# EAGLE library part NOKIA_LCD5110_LOGIC_LEVEL (library MTS-OTR_Custom)
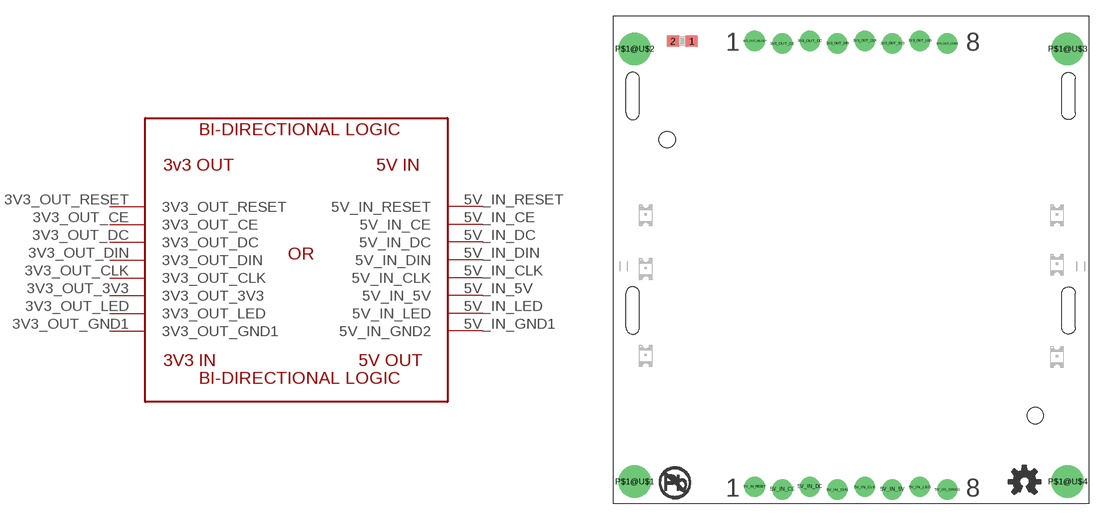
[diagram p40: symbol with the pads of NOKIA_LCD5110_LOGIC_LEVEL; footprint NOKIA_LCD5110_LOGIC_LEVEL]

Designator prefix -

## NOKIA_LCD5110_LOGIC_LEVEL  [NOKIA_LCD5110_LOGIC_LEVEL]
3V3_OUT_3V3  3V3_OUT_3V3
3V3_OUT_CE  3V3_OUT_CE
3V3_OUT_CLK  3V3_OUT_CLK
3V3_OUT_DC  3V3_OUT_DC
3V3_OUT_DIN  3V3_OUT_DIN
3V3_OUT_GND1  3V3_OUT_GND1
3V3_OUT_LED  3V3_OUT_LED
3V3_OUT_RESET  3V3_OUT_RESET
5V_IN_5V  5V_IN_5V
5V_IN_CE  5V_IN_CE
5V_IN_CLK  5V_IN_CLK
5V_IN_DC  5V_IN_DC
5V_IN_DIN  5V_IN_DIN
5V_IN_GND1  5V_IN_GND2
5V_IN_LED  5V_IN_LED
5V_IN_RESET  5V_IN_RESET

## Footprint NOKIA_LCD5110_LOGIC_LEVEL (pad centres in mm)
Package generated by make-group2pac.ulp from: F:/INSTALLATIONS/Eagle 7.6.0/projects/NOKIA LCD BARE PCB/NOKIA 5110 BARE PCB - ELECROW SENT - WORKS-COPY_LEVEL_SHIFTER.brd at: 19/07/2017 23:56
smd 1.1 x 1: 1 7.25,42.7; 2 5.55,42.7
drill 1.016 pad 1.88: 3V3_OUT_3V3 25.8,42.473; 3V3_OUT_CE 15.64,42.473; 3V3_OUT_CLK 23.26,42.727; 3V3_OUT_DC 18.18,42.727; 3V3_OUT_DIN 20.72,42.473; 3V3_OUT_GND1 30.88,42.473; 3V3_OUT_LED 28.34,42.727; 3V3_OUT_RESET 13.1,42.727; 5V_IN_5V 25.8,1.273; 5V_IN_CE 15.64,1.273; 5V_IN_CLK 23.26,1.527; 5V_IN_DC 18.18,1.527; 5V_IN_DIN 20.72,1.273; 5V_IN_GND1 30.88,1.273; 5V_IN_LED 28.34,1.527; 5V_IN_RESET 13.1,1.527
drill 2 pad 2.2: P$1@U$1 2.01,2.01; P$1@U$2 2.01,41.99; P$1@U$3 41.99,41.99; P$1@U$4 41.99,2.01
hole 1.5 at 5,33.6
hole 1.5 at 39,8.1